# EAGLE library part 816-108 (library con-wago_816)
Serie 816, grau / Series 816, gray Polzahl / Pole No.: 8 Rastermaß / Pitch: 5 mm Bemessungsspannung / Rated Voltage: 320 V Nennstrom / Nominal Current: 14 A Anschlusstechnik / Connection Technology: Push-in CAGE CLAMP® Lötstiftlänge: / Solder Pin Length: 3.5 mm Leitereinführung (zur Platine) / Conductor entry angle (to PCB): 45 ° Farbe / Color: 2-Leiter-Leiterplattenklemme; 1,5 mm2; Rastermaß 5 mm; 8-polig; Push-in CAGE CLAMP® / 2-conductor PCB terminal block; 1.5 mm2; Pin spacing 5 mm; 8-pole; Push-in CAGE CLAMP® Stand: 01.01.2017. Die jeweils aktuellen Daten zu diesem Artikel finden Sie in unserem Produktkatalog, den Sie unter www.wago.com einsehen können. As of: 01/01/2017. Please find the newest data for this article in our product catalogue, which can be viewed under www.wago.com.
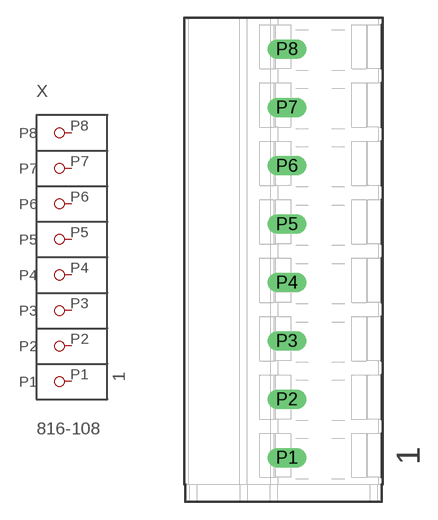
[diagram p2: symbol with the pads of P-816-108; footprint P-816-108]

Designator prefix X

## 816-108  [P-816-108]
P1  P1
P2  P2
P3  P3
P4  P4
P5  P5
P6  P6
P7  P7
P8  P8

## Footprint P-816-108 (pad centres in mm)
drill 1.1 long: P1 0.3,-16.95; P2 0.3,-11.95; P3 0.3,-6.95; P4 0.3,-1.95; P5 0.3,3.05; P6 0.3,8.05; P7 0.3,13.05; P8 0.3,18.05